# Altium schematic symbol library Miscellaneous.SchLib: 1 symbol
Pins are listed as number, name and electrical type; pins without a type are passive.

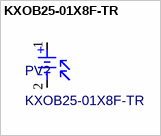
[diagram p0: symbol KXOB25-01X8F-TR]

## KXOB25-01X8F-TR
designator PV?
Monocrystalline Solar Cell 24.5 mW 5.53 V; Supplier 1: DigiKey; Supplier Part Number 1: KXOB25-01X8F-CT-ND
footprint KXOB25-01X8F-TR
pins: 1 +, 2 -